# Altium footprint library special.PCBLIB: 77 footprints (part 5 of 5)
Each footprint in its own frame and in the unit in brackets; x right, y up, seen from the top. Pads: shape width x height; smd on the part's side, far side on the other; paste and mask are expansions set on the pad; w line width, h text height; cw(c..) or ccw(c..) is an arc to the next point about the centre after c.
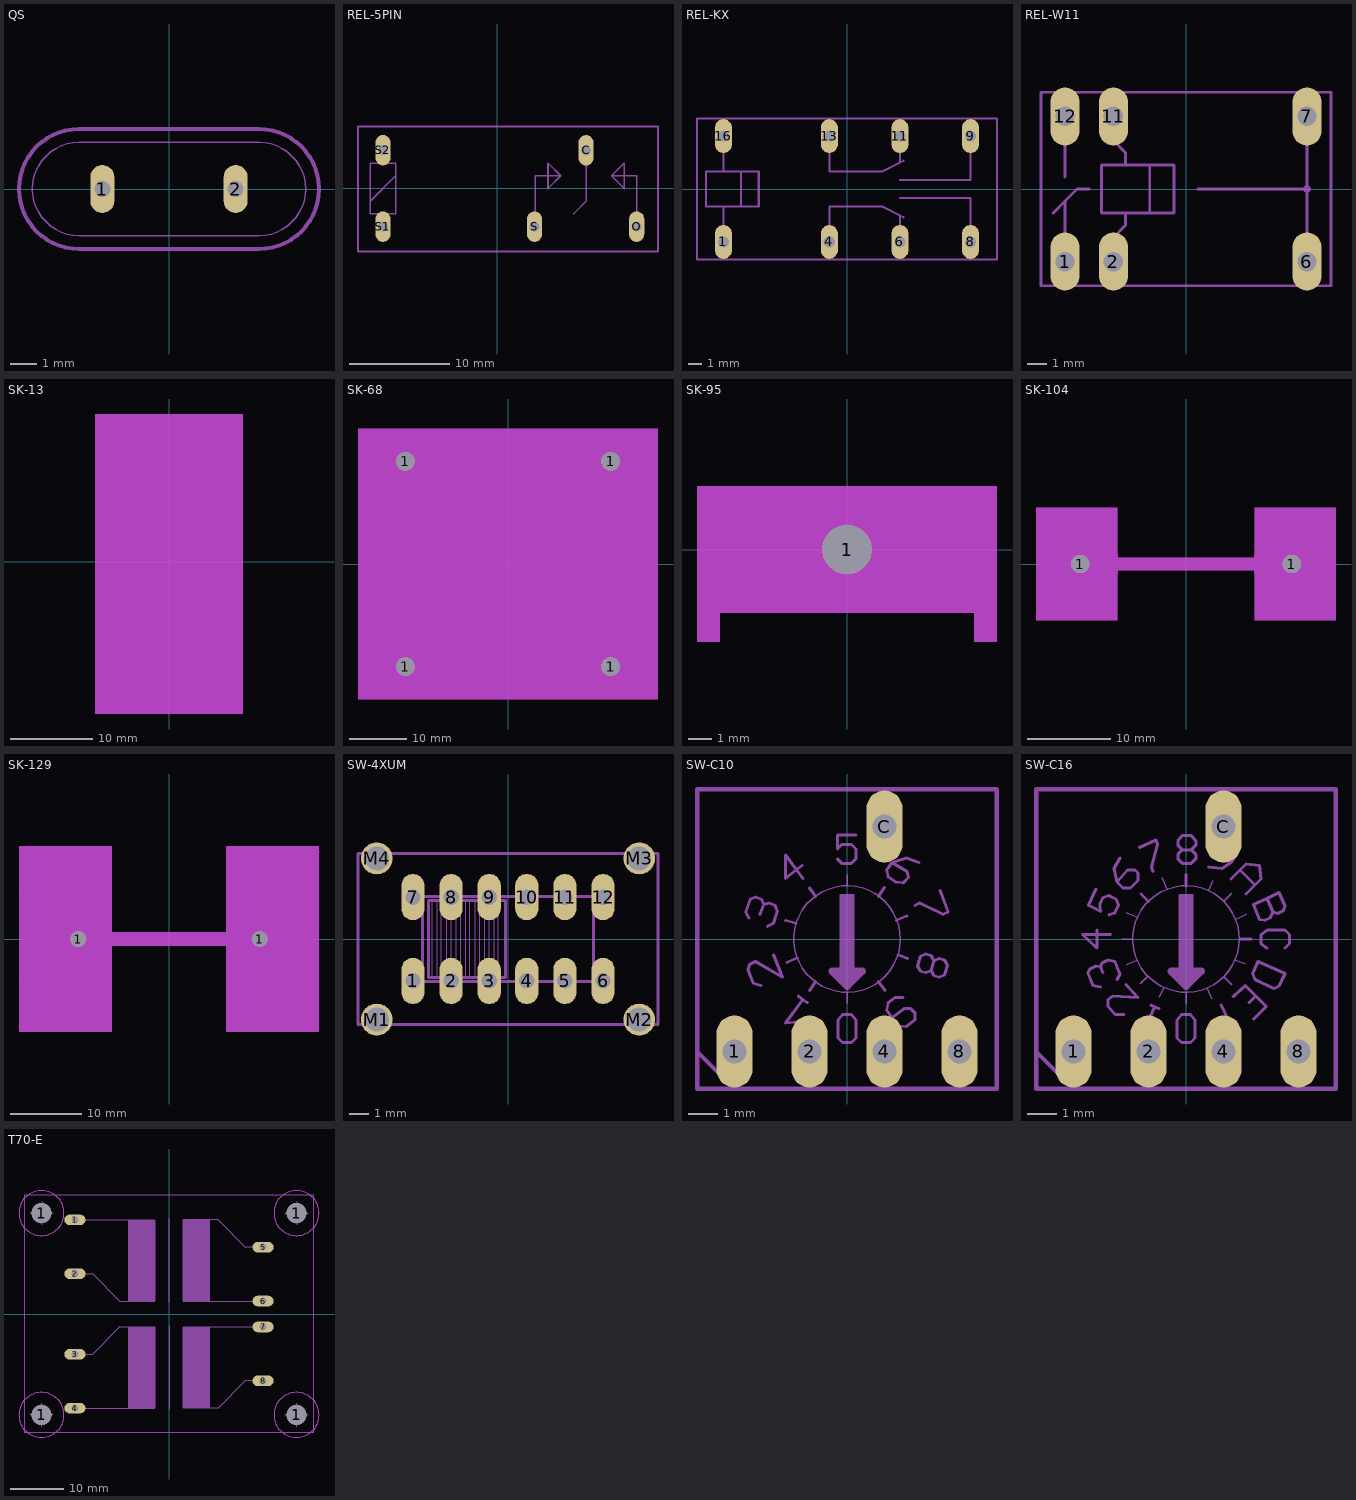
[diagram p4: the footprints below, top view; thin cyan lines are the x and y axes]

## QS [mil]
pads (2):
  oval 36x72 hole 24: 1(-100,0) 2(100,0)
Mechanical 2:
  lines w2: -135,-70 135,-70 ccw(c135,0) 135,70 -135,70 ccw(c-135,0) -135,-70
  lines w6: -135,-90 135,-90 ccw(c135,0) 135,90 -135,90 ccw(c-135,0) -135,-90

## REL-5PIN [mil]
pads (5):
  oval 60x120 hole 40: C(350,150) O(549,-150) S(147,-150) S1(-450,-150) S2(-450,151)
Mechanical 2:
  lines w6: 150,-100 150,50 250,50 ; 300,-100 350,-50 350,100 ; 550,-100 550,50 450,50 ; -500,-50 -500,-100 -400,-100 -400,50 ; -500,-50 -400,50 ; -500,-50 -500,100 -400,100 -400,50 ; 250,50 200,100 200,0 250,50 ; 450,50 500,100 500,0 450,50 ; -548,-248 -548,244 633,244 633,-248 -548,-248

## REL-KX [mil]
pads (8):
  oval 48x96 hole 32: 1(-350,-150) 4(-50,-150) 6(150,-150) 8(350,-150) 9(350,150) 11(150,150) 13(-50,150) 16(-350,150)
Mechanical 2:
  lines w6: -350,-100 -350,-50 ; -350,100 -350,50 ; -50,-100 -50,-50 100,-50 150,-75 ; -50,100 -50,50 100,50 150,75 ; 150,-100 150,-75 ; 150,-25 350,-25 350,-100 ; 150,25 350,25 350,100 ; 150,100 150,75 ; 160,-80 150,-75 ; 160,80 150,75 ; -350,-50 -400,-50 -400,50 -350,50 ; -350,-50 -300,-50 ; -350,50 -300,50 ; -300,-50 -300,50 ; -300,-50 -250,-50 -250,50 -300,50 ; -425,-200 425,-200 425,200 -425,200 -425,-200

## REL-W11 [mil]
pads (6):
  oval 60x120 hole 40: 1(-250,-150) 2(-150,-150) 6(250,-150) 7(250,150) 11(-150,150) 12(-250,150)
Mechanical 2:
  circle w6: c250,0 r5
  lines w6: -275,-50 -250,-25 ; -250,-100 -250,-25 ; -250,25 -250,100 ; -200,0 -225,0 -250,-25 ; -150,-100 -125,-75 -125,-50 ; -150,100 -125,75 -125,50 ; 25,0 250,0 ; 250,-100 250,0 ; 250,100 250,0 ; -125,-50 -175,-50 -175,50 -125,50 ; -125,-50 -75,-50 ; -125,50 -75,50 ; -75,-50 -75,50 ; -75,-50 -25,-50 -25,50 -75,50 ; -300,-200 300,-200 300,200 -300,200 -300,-200

## SK-13 [mil]
Mechanical 2:
  rectangle: -335,-700 -275,680
  rectangle: 275,-700 335,680
  lines w6: -330,-700 330,-700 ; -330,680 330,680 ; -160,-400 160,-400 ccw(c160,-300) 160,-200 -160,-200 ccw(c-160,-300) -160,-400
Mechanical 10 keep-out:
  rectangle: -354.33,-728.35 354.33,708.66

## SK-68 [mil]
pads (4):
  round 126 hole 126: 1(-700,-700) 1(-700,700) 1(700,-700) 1(700,700)
Mechanical 2:
  circle w6: c700,700 r67
  circle w6: c700,-700 r67
  circle w6: c-700,-700 r67
  circle w6: c-700,700 r67
  rectangle: -1000,750 1000,900
  rectangle: -1000,500 1000,650
  rectangle: -1000,-900 1000,-750
  rectangle: -1000,-650 1000,-500
  rectangle: -1000,-50 1000,50
  rectangle: -1000,225 1000,325
  rectangle: -1000,-325 1000,-225
  lines w6: -1000,-895 -1000,895 ; -785,-700 -615,-700 ; -785,700 -615,700 ; -700,-785 -700,-615 ; -700,615 -700,785 ; 615,-700 785,-700 ; 615,700 785,700 ; 700,-785 700,-615 ; 700,615 700,785 ; 1000,-895 1000,895
Mechanical 10 keep-out:
  rectangle: -1023.62,-925.2 1023.62,925.2
Mechanical 11 keep-out:
  circle w0: c700,700 r150
  circle w0: c700,-700 r150
  circle w0: c-700,-700 r150
  circle w0: c-700,700 r150
Mechanical 12:
  circle w0: c700,700 r150
  circle w0: c700,-700 r150
  circle w0: c-700,-700 r150
  circle w0: c-700,700 r150

## SK-95 [mil]
pads (1):
  round 84 hole 84: 1(0,0)
Mechanical 2:
  rectangle: -225,-100 225,-96
  lines w6: -225,-98 -225,-150 -250,-150 -250,100 -200,100 -200,-50 -150,-50 -150,100 -100,100 -100,-50 -50,-50 -50,100 50,100 50,-50 100,-50 100,100 150,100 150,-50 200,-50 200,100 250,100 250,-150 225,-150 225,-98
Mechanical 10 keep-out:
  rectangle: -255.91,-108.27 255.91,108.27
  rectangle: -255.91,-157.48 -216.54,-108.27
  rectangle: 216.54,-157.48 255.91,-108.27
Mechanical 11 keep-out:
  circle w0: c0,0 r105

## SK-104 [mil]
pads (2):
  round 86 hole 86: 1(-500,0) 1(500,0)
Mechanical 2:
  drawing of 156 lines, arcs and shapes, not listed
Mechanical 10 keep-out:
  rectangle: -708.66,-265.75 -324.8,265.75
  rectangle: 324.8,-265.75 708.66,265.75
  rectangle: -324.8,-29.53 324.8,29.53

## SK-129 [mil]
pads (2):
  round 86 hole 86: 1(-500,0) 1(500,0)
Mechanical 2:
  drawing of 168 lines, arcs and shapes, not listed
Mechanical 10 keep-out:
  rectangle: -826.77,-511.81 -314.96,511.81
  rectangle: 314.96,-511.81 826.77,511.81
  rectangle: -314.96,-39.37 314.96,39.37

## SW-4XUM [mil]
pads (16):
  oval 48x96 hole 32: 1(-197,-87) 2(-118,-87) 3(-39,-87) 4(39,-87) 5(118,-87) 6(197,-87) 7(-197,87) 8(-118,87) 9(-39,87) 10(39,87) 11(118,87) 12(197,87)
  round 66 hole 50: M1(-272,-167) M2(272,-167) M3(272,167) M4(-272,167)
Mechanical 2:
  lines w6: -311,-177 -311,177 ; -232,-177 231,-177 ; -231,177 230,177 ; 311,-177 311,177
Mechanical 18:
  lines w2: -157,-79 -157,79 ; -148,-79 -148,79 ; -138,-79 -138,79 ; -128,-79 -128,79 ; -118,-79 -118,79 ; -108,-79 -108,79 ; -98,-79 -98,79 ; -89,-79 -89,79 ; -79,-79 -79,79 ; -69,-79 -69,79 ; -59,-79 -59,79 ; -49,-79 -49,79 ; -39,-79 -39,79 ; -30,-79 -30,79 ; -20,-79 -20,79
  lines w6: -311,-177 -232,-177 ; -311,177 -231,177 ; 230,177 311,177 ; 231,-177 311,-177 ; -177,-88 -177,88 177,88 177,-88 -177,-88 ; -165,-80 -5,-80 -5,80 -165,80 -165,-80

## SW-C10 [mil]
pads (5):
  oval 48x96 hole 32: 1(-150,-150) 2(-50,-150) 4(50,-150) 8(150,-150) C(50,150)
Mechanical 2:
  circle w2: c0,0 r71
  rectangle: -10,-40 10,60
  lines w2: 0,-86 0,-72 ; 0,71 0,86
  lines w4: -131,28 -135,36 -129,53 -122,56 -114,53 -111,46 ; -116,33 -111,46 ; -115,-62 -125,-59 -132,-41 -130,-34 -122,-30 -86,-51 -98,-21 ; -106,17 -98,21 -93,37 -96,45 -104,48 -111,46 ; -82,25 -68,21 ; -80,-31 -66,-25 ; -70,-111 -82,-112 -59,-81 ; -65,-76 -59,-81 ; -60,98 -82,81 -82,112 -59,81 ; -53,-85 -59,-81 ; -50,-69 -42,-57 ; -50,68 -42,57 ; -13,107 -7,101 6,101 12,107 12,120 6,126 -7,126 -13,120 -13,139 12,139 ; 42,-57 51,-69 ; 42,57 50,69 ; 66,25 80,31 ; 68,-21 81,-26 ; 75,-78 64,-78 55,-85 53,-95 60,-105 ; 91,45 97,48 128,33 135,36 124,65 ; 96,102 79,108 60,102 ; 60,-105 76,-93 85,-93 91,-99 91,-108 79,-117 68,-116 60,-105 ; 60,102 80,90 82,82 75,75 65,76 55,83 53,92 60,102 ; 112,-42 116,-29 ; 112,-42 105,-45 98,-43 94,-36 98,-23 105,-20 112,-22 116,-29 ; 112,-42 116,-49 123,-51 130,-48 134,-35 130,-28 123,-26 116,-29 ; -12,-132 -12,-108 -6,-101 6,-101 12,-108 12,-132 6,-138 -6,-138 -12,-132
  lines w6: -200,-150 -200,-200 -150,-200 ; -200,-150 -150,-200 ; -200,-150 -200,200 200,200 200,-200 -150,-200
  lines w10: -10,-48 10,-48 ; 0,-58 0,-53 ; -20,-43 0,-63 20,-43 -20,-43

## SW-C16 [mil]
pads (5):
  oval 48x96 hole 32: 1(-150,-150) 2(-50,-150) 4(50,-150) 8(150,-150) C(50,150)
Mechanical 2:
  circle w2: c0,0 r71
  rectangle: -10,-40 10,60
  lines w2: -86,0 -71,0 ; -80,-34 -65,-28 ; -80,35 -65,29 ; -61,-60 -51,-50 ; -36,-78 -30,-65 ; -32,82 -26,67 ; 0,-87 0,-72 ; 28,-66 34,-80 ; 30,65 36,78 ; 51,-51 61,-61 ; 51,51 61,61 ; 65,26 81,33 ; 66,-28 79,-33
  lines w4: -120,67 -130,45 -114,37 -115,46 -111,55 -103,58 -93,53 -90,45 -95,35 -103,32 ; -119,12 -119,-12 -138,6 -101,6 ; -114,-64 -124,-62 -131,-45 -128,-40 -120,-36 -114,-37 ; -111,-45 -114,-37 ; -92,-54 -88,-47 -95,-30 -104,-28 -112,-32 -114,-37 ; -88,108 -96,94 -92,76 ; -83,-101 -94,-101 -104,-90 -104,-81 -98,-76 -64,-78 -80,-61 ; -62,122 -40,132 -38,126 -46,96 -44,90 ; -60,60 -50,50 ; -47,-88 -36,-93 ; 0,71 0,86 ; 30,96 48,94 60,102 ; 41,-111 55,-105 47,-88 ; 42,110 60,102 ; 60,80 72,92 ; 63,-77 79,-62 93,-76 ; 66,112 60,102 ; 72,0 87,0 ; 80,60 92,72 ; 84,-85 93,-76 ; 90,-107 107,-90 93,-76 ; 108,-12 100,-6 100,6 108,12 132,12 138,6 138,-6 132,-12 ; -92,76 -78,92 -68,92 -64,88 -64,78 -74,68 -84,68 -92,76 ; -5,119 -11,125 -11,131 -5,138 7,138 13,131 13,125 7,119 ; -5,119 -11,113 -11,107 -5,101 7,101 13,107 13,113 7,119 ; -5,119 7,119 ; 72,92 92,72 ; 72,92 80,100 98,98 100,80 92,72 ; 108,54 90,46 98,26 105,25 112,28 116,36 ; 108,54 116,36 ; 108,54 124,62 132,44 130,38 122,34 116,36 ; -12,-132 -12,-108 -6,-101 6,-101 12,-108 12,-132 6,-138 -6,-138 -12,-132 ; 89,-46 96,-30 132,-46 124,-63 117,-66 92,-54 89,-46
  lines w6: -200,-150 -200,-200 -150,-200 ; -200,-150 -150,-200 ; -200,-150 -200,200 200,200 200,-200 -150,-200
  lines w10: -10,-48 10,-48 ; 0,-58 0,-53 ; -20,-43 0,-63 20,-43 -20,-43
Mechanical 18:
  lines w4: -45,-122 -57,-124 -42,-91 ; 42,110 38,120 42,128 52,130 64,124 66,112 ; 44,-131 63,-122 55,-105

## T70-E [mil]
pads (12):
  round 146 hole 146: 1(-935,-740) 1(-935,740) 1(935,-740) 1(935,740)
  oval 156x78 hole 52: 1(-690,690) 2(-690,295) 3(-690,-295) 4(-690,-690) 5(690,490) 6(690,95) 7(690,-95) 8(690,-490)
Mechanical 2:
  circle w6: c935,740 r70
  circle w6: c-935,-740 r70
  circle w6: c935,-740 r70
  circle w6: c-935,740 r70
  rectangle: -300,95 -100,690
  rectangle: 100,95 300,690
  rectangle: -300,-690 -100,-95
  rectangle: 100,-690 300,-95
  lines w6: -1020,-740 -850,-740 ; -1020,740 -850,740 ; -935,-825 -935,-655 ; -935,655 -935,825 ; -620,-690 -105,-690 ; -620,-295 -560,-295 -360,-95 -105,-95 ; -620,295 -560,295 -360,95 -105,95 ; -620,690 -105,690 ; 0,-699 0,-88 ; 0,88 0,699 ; 105,-690 360,-690 560,-490 620,-490 ; 105,-95 625,-95 ; 105,95 625,95 ; 105,690 360,690 560,490 620,490 ; 850,-740 1020,-740 ; 850,740 1020,740 ; 935,-825 935,-655 ; 935,655 935,825 ; -1060,-870 -1060,870 1060,870 1060,-870 -1060,-870
Mechanical 11 keep-out:
  circle w0: c935,740 r165
  circle w0: c935,-740 r165
  circle w0: c-935,-740 r165
  circle w0: c-935,740 r165
Mechanical 12:
  circle w0: c935,740 r165
  circle w0: c935,-740 r165
  circle w0: c-935,-740 r165
  circle w0: c-935,740 r165